# Altium footprint library libreriaPcb.PcbLib: 683 footprints (part 5 of 44)
Each footprint in its own frame and in the unit in brackets; x right, y up, seen from the top. Pads: shape width x height; smd on the part's side, far side on the other; paste and mask are expansions set on the pad; w line width, h text height; cw(c..) or ccw(c..) is an arc to the next point about the centre after c.
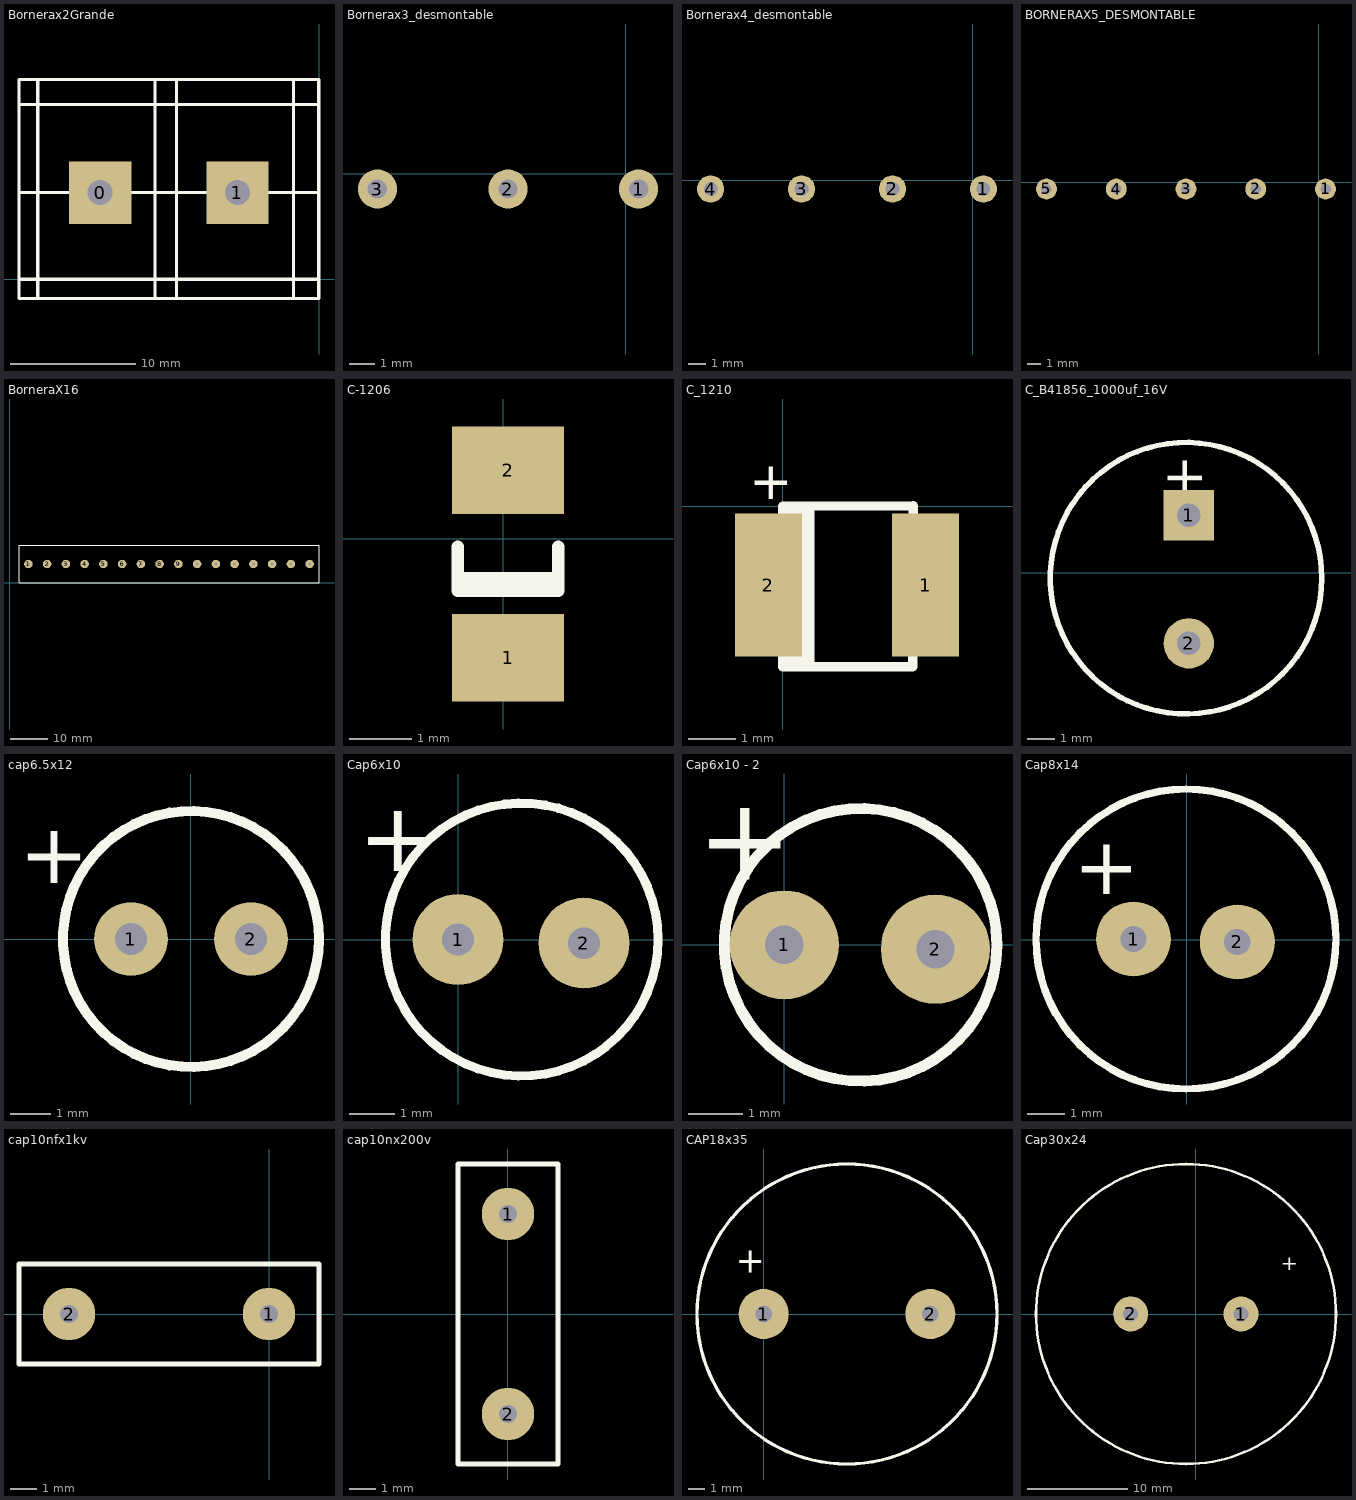
[diagram p4: the footprints below, top view; thin cyan lines are the x and y axes]

## Bornerax2Grande [mm]
pads (2):
  rect 5x5 hole 2: 0(-17.526,6.934) 1(-6.528,6.934)
Top Overlay:
  lines w0.254: -24.003,0 0,0 ; -23.978,6.934 -0.025,6.934 ; -23.978,13.995 -0.025,13.995 ; -22.53,-1.549 -22.53,16.002 ; -13.132,-1.549 -13.132,16.002 ; -11.405,-1.549 -11.405,16.002 -11.379,16.002 ; -2.032,-1.549 -2.032,16.002 ; -24.028,-1.549 -24.028,16.002 -0.025,16.002 -0.025,-1.549 -24.028,-1.549
3D body: height 13, standoff 11, extent -20.526,3.935 -14.526,9.933
3D body: height 13, standoff 11, extent -9.528,3.935 -3.528,9.933
3D body: height 11.2, standoff 10, extent -21.946,0.457 -13.716,13.614
3D body: height 11.2, standoff 10, extent -10.643,0.356 -2.413,13.513
3D body: height 10, standoff 0, extent -22.53,0 -1.905,14.072
3D body: height 2, standoff 0, extent -23.926,-0.787 -0.178,0.025
3D body: height 2, standoff 0, extent -24.13,14.161 -0.102,15.938
3D body: height 18, standoff 0, extent -1.802,-1.587 -0.305,15.963
3D body: height 18, standoff 0, extent -12.902,-1.473 -11.405,16.078
3D body: height 18, standoff 0, extent -24.028,-1.549 -22.53,16.001

## Bornerax3_desmontable [mil]
height 590.55
pads (3):
  round 60 hole 30: 1(19.68,-23.62) 2(-181.1,-23.62) 3(-381.89,-23.62)
3D body "User Library-TB5_08-3R.STEP": height 332.68, standoff -165.35, extent -519.68,-413.38 159.06,59.06

## Bornerax4_desmontable [mil]
height 590.55
pads (4):
  round 60 hole 30: 1(23.62,-19.68) 2(-177.17,-19.68) 3(-377.95,-19.68) 4(-578.74,-19.69)
3D body "User Library-TB5_08-4R.STEP": height 332.68, standoff -165.35, extent -719.68,-413.38 159.06,59.06

## BORNERAX5_DESMONTABLE [mil]
height 590.55
pads (5):
  round 60 hole 30: 1(19.68,-19.68) 2(-181.1,-19.68) 3(-381.89,-19.68) 4(-582.68,-19.69) 5(-783.46,-19.68)
3D body "User Library-TB5_08-5R.STEP": height 332.68, standoff -165.35, extent -919.68,-413.38 159.06,59.06

## BorneraX16 [mm]
pads (16):
  round 2.25 hole 0.762: 1(5,5) 2(10,5) 3(15,5) 4(20,5) 5(25,5) 6(30,5) 7(35,5) 8(40,5) 9(45,5) 10(50,5) 11(55,5) 12(60,5) 13(65,5) 14(70,5) 15(75,5) 16(80,5)
Top Overlay:
  lines w0.254: 2.5,0 2.5,10 5,10 82.5,10 82.5,0 2.5,0

## C-1206 [mm]
pads (2):
  rect 1.8x1.4 smd: 1(0.079,-1.903) 2(0.079,1.097)
Top Overlay:
  lines w0.2: -0.721,-0.628 0.879,-0.628 ; -0.721,-0.128 -0.721,-0.828 0.879,-0.828 0.879,-0.128
3D body: height 0.55, standoff 0, extent -0.671,-2.028 0.829,1.097
3D body: height 0.56, standoff 0.55, extent -0.671,-1.403 0.829,0.597

## C_1210 [mm]
pads (2):
  rect 1.4x3 smd: 1(3,-1.65) 2(-0.3,-1.65)
Top Overlay:
  rectangle: 0,-3.37 0.664,0
  lines w0.2: 0,-3.37 0,0 2.74,0.01 2.73,-1.65 2.73,-3.37 0,-3.37
  text "+" at -0.707,0.153 h0.8
3D body: height 2, standoff 0, extent 0.05,-3.24 2.65,-0.11
3D body: height 1, standoff 0, extent 2.65,-3.24 2.95,-0.11
3D body: height 1, standoff 0, extent -0.25,-3.24 0.05,-0.11
3D body: height 2.1, standoff 0, extent 0.01,-3.226 0.599,-0.115

## C_B41856_1000uf_16V [mm]
pads (2):
  rect 1.85x1.85 hole 0.85: 1(9.536,2.111)
  round 1.85 hole 0.85: 2(9.536,-2.588)
Top Overlay:
  circle w0.2: c9.435,-0.2 r4.978
  text "+" at 8.774,4.321 h1.5
3D body: height 10, standoff 0, extent 4.457,-5.178 14.413,4.778

## cap6.5x12 [mm]
pads (2):
  round 1.85 hole 0.8: 1(-1.5,0) 2(1.5,0)
Top Overlay:
  circle w0.254: c0,0 r3.2
  text "+" at -4.3,1.4 h1.52
3D body: height 11.1, standoff 0, extent -2.48,-2.495 2.5,2.495
3D body: height 11, standoff 0, extent 3,-0.5 3.3,0.7
3D body: height 11, standoff 0, extent -3.199,-3.199 3.199,3.199

## Cap6x10 [mm]
pads (2):
  round 2 hole 0.7: 1(0,0) 2(2.77,-0.08)
Top Overlay:
  circle w0.2: c1.4,0 r3
  text "+" at -2.2,1.5 h1.52
3D body: height 10.1, standoff 0, extent 4.2,-0.95 4.5,1.05
3D body: height 10.1, standoff 0, extent -0.881,-2.395 3.9,2.395
3D body: height 10, standoff 0, extent -1.576,-2.994 4.4,2.994

## Cap6x10 - 2 [mm]
pads (2):
  round 2 hole 0.7: 1(0,0) 2(2.77,-0.08)
Top Overlay:
  circle w0.2: c1.4,0 r2.5
  text "+" at -1.6,1.19 h1.52
3D body: height 10, standoff 0, extent -1.1,-2.499 3.9,2.499
3D body: height 10.5, standoff 0, extent -0.9,-2.3 3.7,2.3
3D body: height 10, standoff 0, extent 3.785,-0.584 3.988,0.61

## Cap8x14 [mm]
pads (2):
  round 2 hole 0.7: 1(-1.422,0.025) 2(1.348,-0.055)
Top Overlay:
  circle w0.2: c-0.022,0.025 r4
  text "+" at -3.022,1.215 h1.52
3D body: height 11.8, standoff 0, extent -3.991,-3.967 3.978,4.018
3D body: height 12, standoff 0, extent -3.892,-3.867 3.878,3.918
3D body: height 11.8, standoff 0, extent 3.95,-0.559 4.153,0.635

## cap10nfx1kv [mm]
pads (2):
  round 2 hole 0.7: 1(0,0) 2(-7.62,0)
Top Overlay:
  lines w0.2: -9.525,-1.905 -9.525,1.905 1.905,1.905 1.905,-1.905 -9.525,-1.905
3D body: height 4, standoff 0, extent -7.97,-0.35 -7.27,0.349
3D body: height 4, standoff 0, extent -0.35,-0.35 0.35,0.349
3D body: height 12.3, standoff 1.7, extent -9.059,-1.499 1.541,1.501

## cap10nx200v [mm]
pads (2):
  round 2 hole 0.7: 1(0,3.81) 2(0,-3.81)
Top Overlay:
  lines w0.2: -1.905,-5.715 1.905,-5.715 1.905,5.715 -1.905,5.715 -1.905,-5.715
3D body: height 4, standoff 0, extent -0.349,-4.16 0.35,-3.46
3D body: height 4, standoff 0, extent -0.349,3.46 0.35,4.16
3D body: height 9.5, standoff 0.5, extent -1.321,-4.449 1.179,4.551

## CAP18x35 [mm]
pads (2):
  round 3 hole 1: 1(0,0) 2(10,0)
Top Overlay:
  circle w0.2: c5,0 r9
  text "+" at -1.69,2.47 h1.52

## Cap30x24 [mm]
pads (2):
  round 3.5 hole 1.5: 1(4.545,0) 2(-6.485,0.01)
Top Overlay:
  circle w0.254: c-0.959,0 r15
  text "+" at 8.495,4.4 h1.52
3D body: height 24, standoff 0, extent -15.85,-14.757 14.15,15.234
3D body: height 24, standoff 0.2, extent -16.078,-1.803 -15.646,1.473
3D body: height 25, standoff 24, extent -14.741,-13.743 13.259,14.249